# Altium schematic symbol library SCH - POWER - SWITCHMODE - TI TPS61185_RGE_24.SchLib: 1 symbol
Pins are listed as number, name and electrical type; pins without a type are passive.

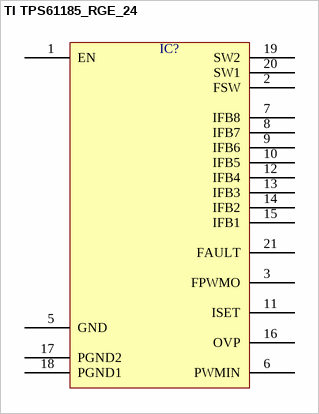
[diagram p0: symbol TI TPS61185_RGE_24]

## TI TPS61185_RGE_24
designator IC?  (value not drawn)
pins: 1 EN, 2 FSW, 3 FPWMO, 5 GND, 6 PWMIN, 7 IFB8, 8 IFB7, 9 IFB6, 10 IFB5, 11 ISET, 12 IFB4, 13 IFB3, 14 IFB2, 15 IFB1, 16 OVP, 17 PGND2, 18 PGND1, 19 SW2, 20 SW1, 21 FAULT